# EAGLE library part BCM857BS (library BCM857BS)
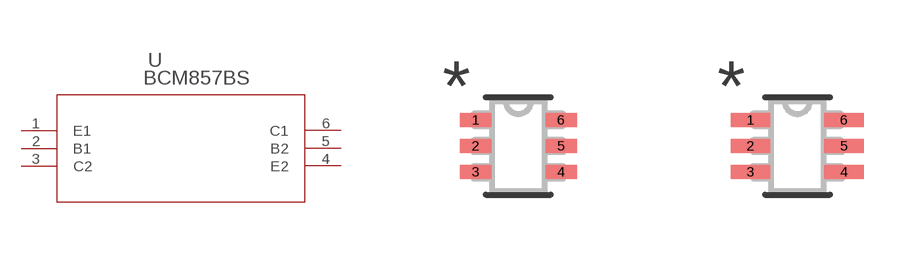
[diagram p0: symbol with the pads of SOT363_NEX; footprints SOT363_NEX, SOT363_NEX-M]

Designator prefix U

## BCM857BS (COPYRIGHT: Copyright (C) 2016 Accelerated Designs. All rights reserved; MANUFACTURER_PART_NUMBER: BCM857BS; SOURCELIBRARY: Nexperia_2018-05-2018; VENDOR: Nexperia)  [SOT363_NEX]
1  E1  pas
2  B1  pas
3  C2  pas
4  E2  pas
5  B2  pas
6  C1  pas

## BCM857BSSOT363_NEX-M (COPYRIGHT: Copyright (C) 2016 Accelerated Designs. All rights reserved; MANUFACTURER_PART_NUMBER: BCM857BS; SOURCELIBRARY: Nexperia_2018-05-2018; VENDOR: Nexperia)  [SOT363_NEX-M]
Pads as for SOT363_NEX

## BCM857BSSOT363_NEX-L (COPYRIGHT: Copyright (C) 2016 Accelerated Designs. All rights reserved; MANUFACTURER_PART_NUMBER: BCM857BS; SOURCELIBRARY: Nexperia_2018-05-2018; VENDOR: Nexperia)  [SOT363_NEX-L]
Pads as for SOT363_NEX

## Footprint SOT363_NEX (pad centres in mm)
smd 0.787 x 0.356: 1 -1.067,0.65; 2 -1.067,0; 3 -1.067,-0.65; 4 1.067,-0.65; 5 1.067,0; 6 1.067,0.65

## Footprint SOT363_NEX-M (pad centres in mm)
smd 0.991 x 0.356: 1 -1.168,0.65; 2 -1.168,0; 3 -1.168,-0.65; 4 1.168,-0.65; 5 1.168,0; 6 1.168,0.65

## Footprint SOT363_NEX-L (pad centres in mm)
smd 0.584 x 0.305: 1 -0.965,0.65; 2 -0.965,0; 3 -0.965,-0.65; 4 0.965,-0.65; 5 0.965,0; 6 0.965,0.65